# Altium schematic symbol library Schlib1.SchLib: 38 symbols
Pins are listed as number, name and electrical type; pins without a type are passive.

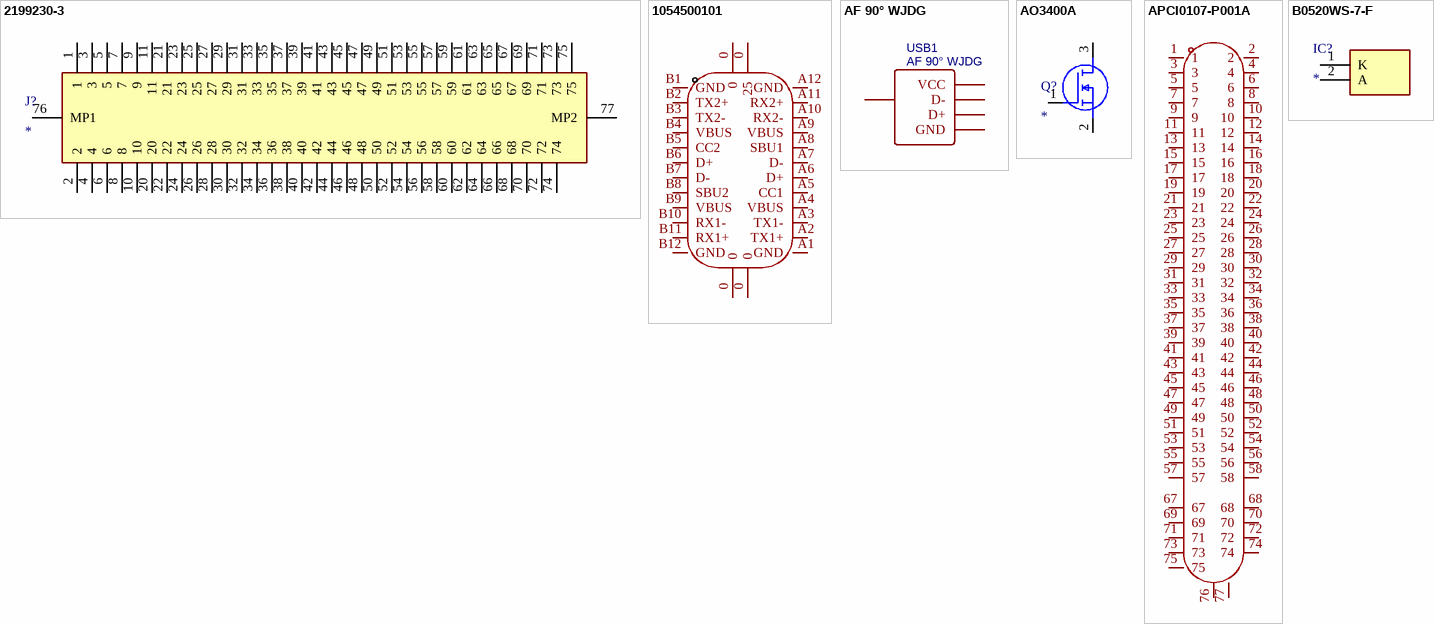
[diagram p0: symbols 2199230-3 to B0520WS-7-F]

## 2199230-3
designator J?
Connector; Manufacturer_Name: TE Connectivity; Manufacturer_Part_Number: 2199230-3; Datasheet Link: https://componentsearchengine.com/Datasheets/2/2199230-3.pdf; Mouser Part Number: 571-2199230-3; Mouser Price/Stock: https://www.mouser.co.uk/ProductDetail/TE-Connectivity/2199230-3?qs=EQCnRgr4b6HElQOKr5ma1Q%3D%3D; Arrow Part Number: 2199230-3; Arrow Price/Stock: https://www.arrow.com/en/products/2199230-3/te-connectivity?utm_currency=USD&region=nac
footprint 21992303
pins: 1, 2, 3, 4, 5, 6, 7, 8, 9, 10, 11, 20, 21, 22, 23, 24, 25, 26, 27, 28, 29, 30, 31, 32, 33, 34, 35, 36, 37, 38, 39, 40, 41, 42, 43, 44, 45, 46, 47, 48, 49, 50, 51, 52, 53, 54, 55, 56, 57, 58, 59, 60, 61, 62, 63, 64, 65, 66, 67, 68, 69, 70, 71, 72, 73, 74, 75, 76 MP1, 77 MP2

## 1054500101
designator USBC?  (value not drawn)
Manufacturer: MOLEX; Symbol: 105450-0101; Add into BOM: yes; Connector Type: Type-C; Protocol Standard: USB 3.2; Gender: Female; Number of Contacts: 24P; Number of Ports: 1; Voltage Rating: 30V; Connect-Disconnect Life: 10,000 Cycles; Detection color: Black; Device: 1054500101; LCSC Part Name: Type-C 母; Supplier Part: C134092; Manufacturer Part: 1054500101; Supplier Footprint: SMD; JLCPCB Part Class: Extended Part; Datasheet: https://www.molex.com/content/dam/molex/molex-dot-com/products/automated/en-us/salesdrawingpdf/105/105450/1054500101_sd.pdf?inline\; Supplier: LCSC; Convert to PCB: yes; Current Rating-Power: -; Operating Temperature: -30℃~+85℃
footprint USB-C-SMD_TYPE-C-USB-18
3D model USB-C-SMD_TYPE-C-USB-18
pins: 0, 0 25, 0, 0, A1 GND, A2 TX1+, A3 TX1-, A4 VBUS, A5 CC1, A6 D+, A7 D-, A8 SBU1, A9 VBUS, A10 RX2-, A11 RX2+, A12 GND, B1 GND, B2 TX2+, B3 TX2-, B4 VBUS, B5 CC2, B6 D+, B7 D-, B8 SBU2, B9 VBUS, B10 RX1-, B11 RX1+, B12 GND

## AF 90° WJDG
designator USB1
Manufacturer: SHOU HAN(首韩); Contributor: LCSC; Supplier: LCSC; Supplier Part: C456018; Manufacturer Part: AF 90° WJDG; JLCPCB Part Class: Extended Part; spicePre: U; spiceSymbolName: AF 90° WJDG
footprint USB-A-TH_AF-WJDG
pins: 1 VCC, 2 D-, 3 D+, 4 GND, 5 SHLD

## AO3400A
designator Q?
MOSFET (N-Channel); Manufacturer_Name: Alpha & Omega Semiconductors; Manufacturer_Part_Number: AO3400A; Datasheet Link: http://aosmd.com/res/data_sheets/AO3400A.pdf; Height: 1.25mm; Arrow Part Number: AO3400A; Arrow Price/Stock: https://www.arrow.com/en/products/ao3400a/alpha-and-omega-semiconductor?utm_currency=USD&region=nac
footprint SOT95P280X125-3N
pins: 1 G, 2 S, 3 D

## APCI0107-P001A
designator CN?  (value not drawn)
Manufacturer: LOTES(嘉澤端子); Add into BOM: yes; Interface Form: M.2-M Key; Connector Type: Female; Supplementary Features: With post; Symbol: APCI0107-P001A; Device: APCI0107-P001A; LCSC Part Name: APCI0107-P001A; Supplier Part: C841661; Manufacturer Part: APCI0107-P001A; Supplier Footprint: SMD,P=0.5mm,卧贴; JLCPCB Part Class: Extended Part; Datasheet: https://item.szlcsc.com/datasheet/APCI0107-P001A/899447.html; Supplier: LCSC; Convert to PCB: yes; Number of Pins: 67P; Mounting Type: Surface Mount, Right Angle; Height Above Board: 4.05mm; Operating Temperature: -
footprint CONN-SMD_APCI0107-P001A
3D model CONN-SMD_APCI0107-P001A
pins: 1, 2, 3, 4, 5, 6, 7, 8, 9, 10, 11, 12, 13, 14, 15, 16, 17, 18, 19, 20, 21, 22, 23, 24, 25, 26, 27, 28, 29, 30, 31, 32, 33, 34, 35, 36, 37, 38, 39, 40, 41, 42, 43, 44, 45, 46, 47, 48, 49, 50, 51, 52, 53, 54, 55, 56, 57, 58, 67, 68, 69, 70, 71, 72, 73, 74, 75, 76, 77

## B0520WS-7-F
designator IC?
Integrated Circuit; Manufacturer_Name: Lattice Semiconductor; Manufacturer_Part_Number: B0520WS-7-F; Datasheet Link: https://www.diodes.com/assets/Datasheets/ds30235.pdf; Height: 1.2mm; Mouser Part Number: N/A; Mouser Price/Stock: https://www.mouser.com/Search/Refine.aspx?Keyword=N%2FA
footprint SOD2513X120N
pins: 1 K, 2 A

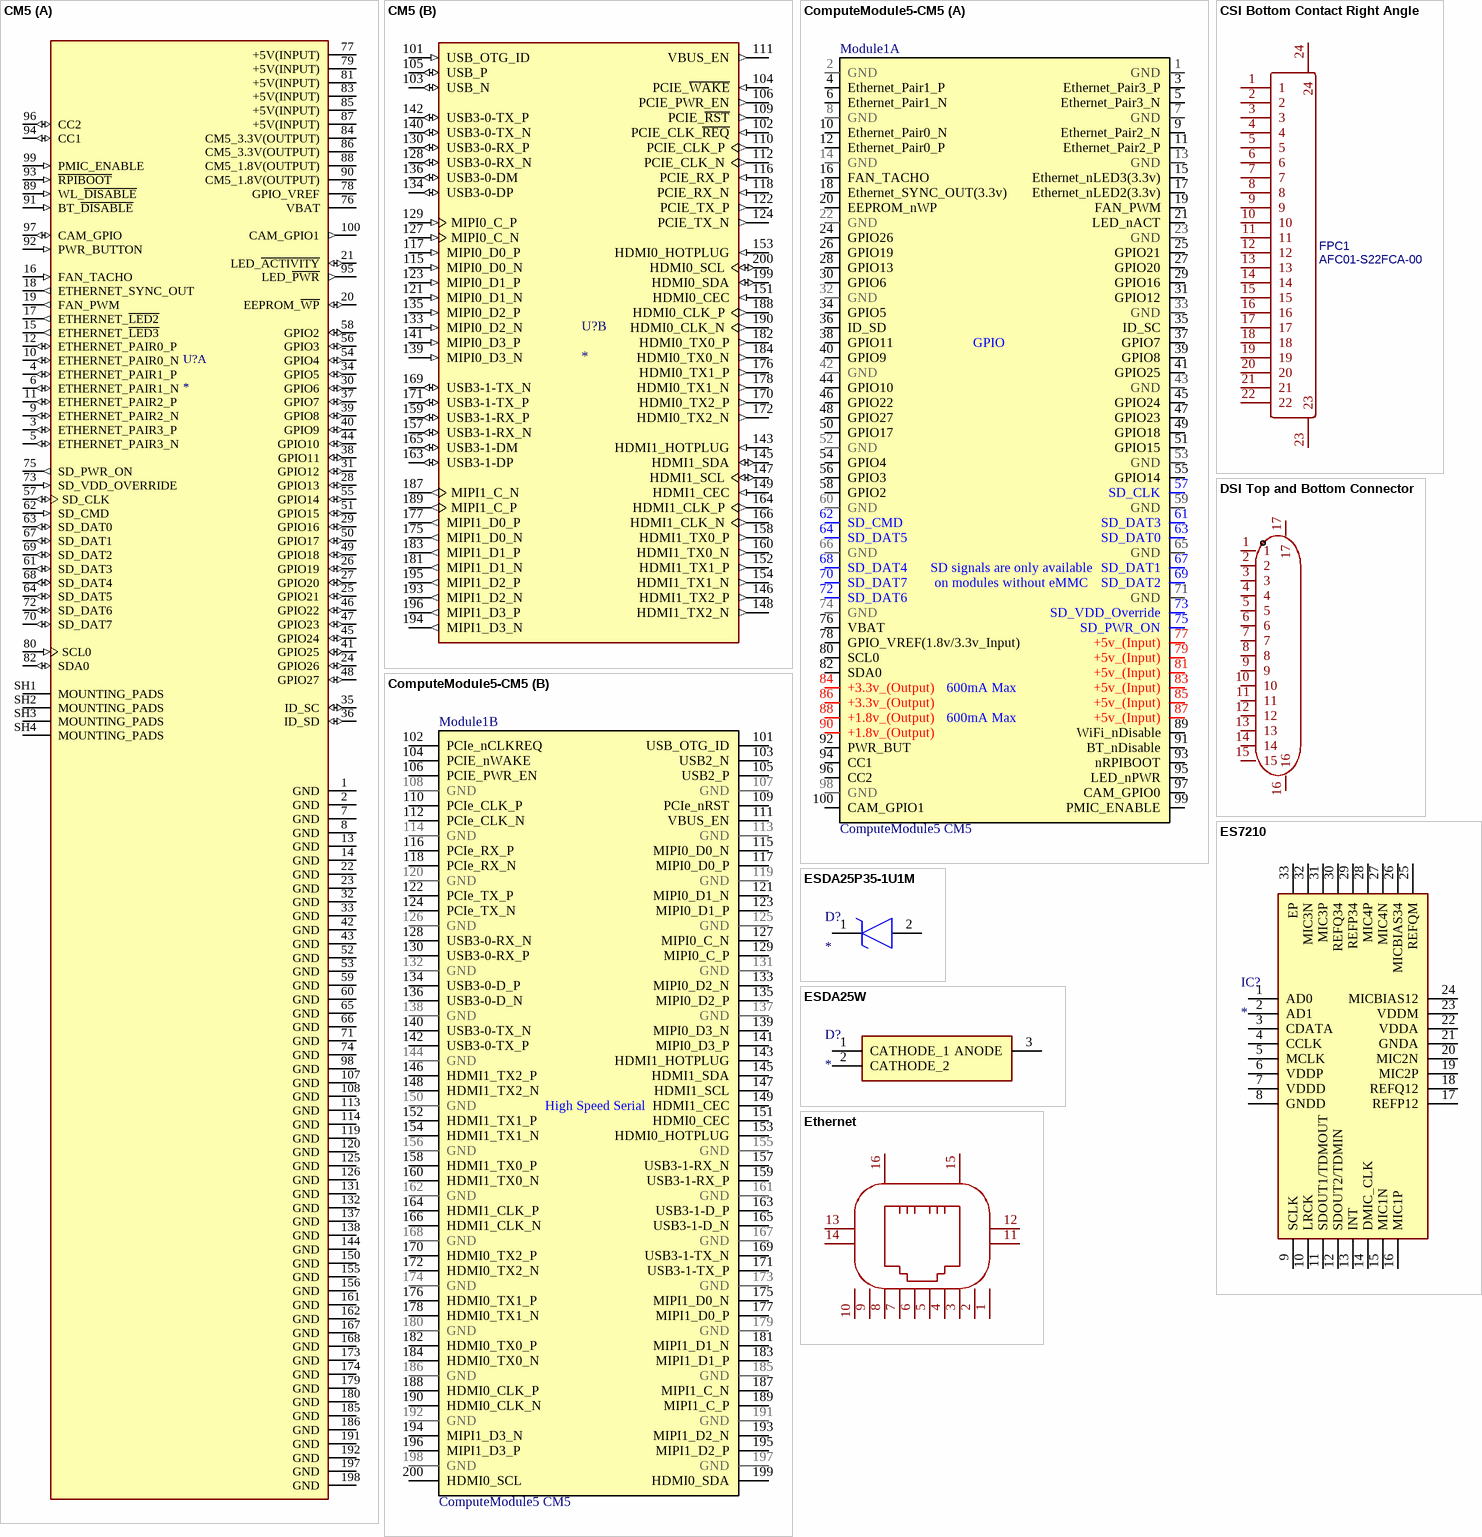
[diagram p1: symbols CM5 to Ethernet]

## CM5
designator U?
Raspberry Compute Module 5, 8GB RAM, 32GB eMMC, Wireless; MF: Raspberry Pi; MP: CM5108032; SnapEDA_Link: https://www.snapeda.com/parts/CM5108032/Raspberry+Pi/view-part/?ref=snap; Package: None; Value: *; Check_prices: https://www.snapeda.com/parts/CM5108032/Raspberry+Pi/view-part/?ref=eda
footprint MODULE_CM5108032
part A pins: 1 GND (power), 2 GND (power), 3 ETHERNET_PAIR3_P (io), 4 ETHERNET_PAIR1_P (io), 5 ETHERNET_PAIR3_N (io), 6 ETHERNET_PAIR1_N (io), 7 GND (power), 8 GND (power), 9 ETHERNET_PAIR2_N (io), 10 ETHERNET_PAIR0_N (io), 11 ETHERNET_PAIR2_P (io), 12 ETHERNET_PAIR0_P (io), 13 GND (power), 14 GND (power), 15 ETHERNET_~{LED3} (out), 16 FAN_TACHO (in), 17 ETHERNET_~{LED2} (out), 18 ETHERNET_SYNC_OUT (out), 19 FAN_PWM (out), 20 EEPROM_~{WP} (io), 21 LED_~{ACTIVITY} (io), 22 GND (power), 23 GND (power), 24 GPIO26 (io), 25 GPIO21 (io), 26 GPIO19 (io), 27 GPIO20 (io), 28 GPIO13 (io), 29 GPIO16 (io), 30 GPIO6 (io), 31 GPIO12 (io), 32 GND (power), 33 GND (power), 34 GPIO5 (io), 35 ID_SC (io), 36 ID_SD (io), 37 GPIO7 (io), 38 GPIO11 (io), 39 GPIO8 (io), 40 GPIO9 (io), 41 GPIO25 (io), 42 GND (power), 43 GND (power), 44 GPIO10 (io), 45 GPIO24 (io), 46 GPIO22 (io), 47 GPIO23 (io), 48 GPIO27 (io), 49 GPIO18 (io), 50 GPIO17 (io), 51 GPIO15 (io), 52 GND (power), 53 GND (power), 54 GPIO4 (io), 55 GPIO14 (io), 56 GPIO3 (io), 57 SD_CLK (io), 58 GPIO2 (io), 59 GND (power), 60 GND (power), 61 SD_DAT3 (io), 62 SD_CMD (in), 63 SD_DAT0 (io), 64 SD_DAT5 (io), 65 GND (power), 66 GND (power), 67 SD_DAT1 (io), 68 SD_DAT4 (io), 69 SD_DAT2 (io), 70 SD_DAT7 (io), 71 GND (power), 72 SD_DAT6 (io), 73 SD_VDD_OVERRIDE (in), 74 GND (power), 75 SD_PWR_ON (out), 76 VBAT (power), 77 +5V(INPUT) (power), 78 GPIO_VREF (power), 79 +5V(INPUT) (power), 80 SCL0 (in), 81 +5V(INPUT) (power), 82 SDA0 (io), 83 +5V(INPUT) (power), 84 CM5_3.3V(OUTPUT) (power), 85 +5V(INPUT) (power), 86 CM5_3.3V(OUTPUT) (power), 87 +5V(INPUT) (power), 88 CM5_1.8V(OUTPUT) (power), 89 WL_~{DISABLE} (in), 90 CM5_1.8V(OUTPUT) (power), 91 BT_~{DISABLE} (in), 92 PWR_BUTTON (in), 93 ~{RPIBOOT} (in), 94 CC1 (io), 95 LED_~{PWR} (out), 96 CC2 (io), 97 CAM_GPIO (io), 98 GND (power), 99 PMIC_ENABLE (in), 100 CAM_GPIO1 (out), 107 GND (power), 108 GND (power), 113 GND (power), 114 GND (power), 119 GND (power), 120 GND (power), 125 GND (power), 126 GND (power), 131 GND (power), 132 GND (power), 137 GND (power), 138 GND (power), 144 GND (power), 150 GND (power), 155 GND (power), 156 GND (power), 161 GND (power), 162 GND (power), 167 GND (power), 168 GND (power), 173 GND (power), 174 GND (power), 179 GND (power), 180 GND (power), 185 GND (power), 186 GND (power), 191 GND (power), 192 GND (power), 197 GND (power), 198 GND (power), SH1 MOUNTING_PADS, SH2 MOUNTING_PADS, SH3 MOUNTING_PADS, SH4 MOUNTING_PADS
part B pins: 101 USB_OTG_ID (in), 102 PCIE_CLK_~{REQ} (in), 103 USB_N (io), 104 PCIE_~{WAKE} (in), 105 USB_P (io), 106 PCIE_PWR_EN (out), 109 PCIE_~{RST} (out), 110 PCIE_CLK_P (out), 111 VBUS_EN (out), 112 PCIE_CLK_N (out), 115 MIPI0_D0_N (in), 116 PCIE_RX_P (in), 117 MIPI0_D0_P (in), 118 PCIE_RX_N (in), 121 MIPI0_D1_N (in), 122 PCIE_TX_P (out), 123 MIPI0_D1_P (in), 124 PCIE_TX_N (out), 127 MIPI0_C_N (in), 128 USB3-0-RX_N (io), 129 MIPI0_C_P (in), 130 USB3-0-RX_P (io), 133 MIPI0_D2_N (in), 134 USB3-0-DP (io), 135 MIPI0_D2_P (in), 136 USB3-0-DM (io), 139 MIPI0_D3_N (in), 140 USB3-0-TX_N (io), 141 MIPI0_D3_P (in), 142 USB3-0-TX_P (io), 143 HDMI1_HOTPLUG (in), 145 HDMI1_SDA (io), 146 HDMI1_TX2_P (out), 147 HDMI1_SCL (io), 148 HDMI1_TX2_N (out), 149 HDMI1_CEC (in), 151 HDMI0_CEC (in), 152 HDMI1_TX1_P (out), 153 HDMI0_HOTPLUG (in), 154 HDMI1_TX1_N (out), 157 USB3-1-RX_N (io), 158 HDMI1_TX0_P (out), 159 USB3-1-RX_P (io), 160 HDMI1_TX0_N (out), 163 USB3-1-DP (io), 164 HDMI1_CLK_P (out), 165 USB3-1-DM (io), 166 HDMI1_CLK_N (out), 169 USB3-1-TX_N (io), 170 HDMI0_TX2_P (out), 171 USB3-1-TX_P (io), 172 HDMI0_TX2_N (out), 175 MIPI1_D0_N (out), 176 HDMI0_TX1_P (out), 177 MIPI1_D0_P (out), 178 HDMI0_TX1_N (out), 181 MIPI1_D1_N (out), 182 HDMI0_TX0_P (out), 183 MIPI1_D1_P (out), 184 HDMI0_TX0_N (out), 187 MIPI1_C_N (out), 188 HDMI0_CLK_P (out), 189 MIPI1_C_P (out), 190 HDMI0_CLK_N (out), 193 MIPI1_D2_N (out), 194 MIPI1_D3_N (out), 195 MIPI1_D2_P (out), 196 MIPI1_D3_P (out), 199 HDMI0_SDA (io), 200 HDMI0_SCL (io)

## ComputeModule5-CM5
designator Module1, comment ComputeModule5 CM5  (no BOM)
Raspberry Pi Compute Module 5
footprint ComputeModule5-CM5
part A pins: 1 GND, 2 GND, 3 Ethernet_Pair3_P, 4 Ethernet_Pair1_P, 5 Ethernet_Pair3_N, 6 Ethernet_Pair1_N, 7 GND, 8 GND, 9 Ethernet_Pair2_N, 10 Ethernet_Pair0_N, 11 Ethernet_Pair2_P, 12 Ethernet_Pair0_P, 13 GND, 14 GND, 15 Ethernet_nLED3(3.3v), 16 FAN_TACHO, 17 Ethernet_nLED2(3.3v), 18 Ethernet_SYNC_OUT(3.3v), 19 FAN_PWM, 20 EEPROM_nWP, 21 LED_nACT, 22 GND, 23 GND, 24 GPIO26, 25 GPIO21, 26 GPIO19, 27 GPIO20, 28 GPIO13, 29 GPIO16, 30 GPIO6, 31 GPIO12, 32 GND, 33 GND, 34 GPIO5, 35 ID_SC, 36 ID_SD, 37 GPIO7, 38 GPIO11, 39 GPIO8, 40 GPIO9, 41 GPIO25, 42 GND, 43 GND, 44 GPIO10, 45 GPIO24, 46 GPIO22, 47 GPIO23, 48 GPIO27, 49 GPIO18, 50 GPIO17, 51 GPIO15, 52 GND, 53 GND, 54 GPIO4, 55 GPIO14, 56 GPIO3, 57 SD_CLK, 58 GPIO2, 59 GND, 60 GND, 61 SD_DAT3, 62 SD_CMD, 63 SD_DAT0, 64 SD_DAT5, 65 GND, 66 GND, 67 SD_DAT1, 68 SD_DAT4, 69 SD_DAT2, 70 SD_DAT7, 71 GND, 72 SD_DAT6, 73 SD_VDD_Override, 74 GND, 75 SD_PWR_ON, 76 VBAT, 77 +5v_(Input), 78 GPIO_VREF(1.8v/3.3v_Input), 79 +5v_(Input), 80 SCL0, 81 +5v_(Input), 82 SDA0, 83 +5v_(Input), 84 +3.3v_(Output), 85 +5v_(Input), 86 +3.3v_(Output), 87 +5v_(Input), 88 +1.8v_(Output), 89 WiFi_nDisable, 90 +1.8v_(Output), 91 BT_nDisable, 92 PWR_BUT, 93 nRPIBOOT, 94 CC1, 95 LED_nPWR, 96 CC2, 97 CAM_GPIO0, 98 GND, 99 PMIC_ENABLE, 100 CAM_GPIO1
part B pins: 101 USB_OTG_ID, 102 PCIe_nCLKREQ, 103 USB2_N, 104 PCIE_nWAKE, 105 USB2_P, 106 PCIE_PWR_EN, 107 GND, 108 GND, 109 PCIe_nRST, 110 PCIe_CLK_P, 111 VBUS_EN, 112 PCIe_CLK_N, 113 GND, 114 GND, 115 MIPI0_D0_N, 116 PCIe_RX_P, 117 MIPI0_D0_P, 118 PCIe_RX_N, 119 GND, 120 GND, 121 MIPI0_D1_N, 122 PCIe_TX_P, 123 MIPI0_D1_P, 124 PCIe_TX_N, 125 GND, 126 GND, 127 MIPI0_C_N, 128 USB3-0-RX_N, 129 MIPI0_C_P, 130 USB3-0-RX_P, 131 GND, 132 GND, 133 MIPI0_D2_N, 134 USB3-0-D_P, 135 MIPI0_D2_P, 136 USB3-0-D_N, 137 GND, 138 GND, 139 MIPI0_D3_N, 140 USB3-0-TX_N, 141 MIPI0_D3_P, 142 USB3-0-TX_P, 143 HDMI1_HOTPLUG, 144 GND, 145 HDMI1_SDA, 146 HDMI1_TX2_P, 147 HDMI1_SCL, 148 HDMI1_TX2_N, 149 HDMI1_CEC, 150 GND, 151 HDMI0_CEC, 152 HDMI1_TX1_P, 153 HDMI0_HOTPLUG, 154 HDMI1_TX1_N, 155 GND, 156 GND, 157 USB3-1-RX_N, 158 HDMI1_TX0_P, 159 USB3-1-RX_P, 160 HDMI1_TX0_N, 161 GND, 162 GND, 163 USB3-1-D_P, 164 HDMI1_CLK_P, 165 USB3-1-D_N, 166 HDMI1_CLK_N, 167 GND, 168 GND, 169 USB3-1-TX_N, 170 HDMI0_TX2_P, 171 USB3-1-TX_P, 172 HDMI0_TX2_N, 173 GND, 174 GND, 175 MIPI1_D0_N, 176 HDMI0_TX1_P, 177 MIPI1_D0_P, 178 HDMI0_TX1_N, 179 GND, 180 GND, 181 MIPI1_D1_N, 182 HDMI0_TX0_P, 183 MIPI1_D1_P, 184 HDMI0_TX0_N, 185 GND, 186 GND, 187 MIPI1_C_N, 188 HDMI0_CLK_P, 189 MIPI1_C_P, 190 HDMI0_CLK_N, 191 GND, 192 GND, 193 MIPI1_D2_N, 194 MIPI1_D3_N, 195 MIPI1_D2_P, 196 MIPI1_D3_P, 197 GND, 198 GND, 199 HDMI0_SDA, 200 HDMI0_SCL
part A text: GPIO; SD signals are only available; on modules without eMMC; 600mA Max
part B text: High Speed Serial

## CSI Bottom Contact Right Angle
designator FPC1, comment AFC01-S22FCA-00
Manufacturer: JS(钜硕电子); Contributor: LCSC; Supplier: LCSC; Supplier Part: C262668; Manufacturer Part: AFC01-S22FCA-00; JLCPCB Part Class: Extended Part; spicePre: F; spiceSymbolName: AFC01-S22FCA-00
footprint FPC-SMD_P0.5-22P_FGS-XJ-H2.0
pins: 1, 2, 3, 4, 5, 6, 7, 8, 9, 10, 11, 12, 13, 14, 15, 16, 17, 18, 19, 20, 21, 22, 23, 24

## DSI Top and Bottom Connector
designator FPC?, comment HC-FPC-1.0-15P-FHH20  (value not drawn)
Manufacturer: HC(虹成电子); Add into BOM: yes; Locking Feature: Hinged Lid; Number of Contacts: 15P; Pitch: 1mm; FFC, FCB Thickness: 0.3mm; Symbol: HC-FPC-1.0-15P-FHH20; Device: HC-FPC-1.0-15P-FHH20; LCSC Part Name: 翻盖式 双侧触点/上下接 P数:15P 间距:1mm; Supplier Part: C49166884; Manufacturer Part: HC-FPC-1.0-15P-FHH20; Supplier Footprint: SMD,P=1mm,卧贴; JLCPCB Part Class: Extended Part; Datasheet: https://item.szlcsc.com/datasheet/HC-FPC-1.0-15P-FHH20/51557854.html; Supplier: LCSC; Convert to PCB: yes; Contact Type: Double-Sided Contacts, Top and Bottom Entry; Mounting Type: Surface Mount, Right Angle; Height Above Board: 2mm; Contact Material: -; Contact Plating: -; Operating Temperature: -40℃~+85℃
footprint FPC-SMD_15P-P0.50_HC-FPC-1.0-15P-FHH20
pins: 1, 2, 3, 4, 5, 6, 7, 8, 9, 10, 11, 12, 13, 14, 15, 16, 17

## ES7210
designator IC?
Integrated Circuit; Manufacturer_Name: Everest; Manufacturer_Part_Number: ES7210; Description: High Performance Four Channels Audio ADC; Datasheet Link: http://www.everest-semi.com/pdf/ES7210%20PB.pdf; Height: 0.8mm
footprint QFN40P400X400X80-33N-D
pins: 1 AD0, 2 AD1, 3 CDATA, 4 CCLK, 5 MCLK, 6 VDDP, 7 VDDD, 8 GNDD, 9 SCLK, 10 LRCK, 11 SDOUT1/TDMOUT, 12 SDOUT2/TDMIN, 13 INT, 14 DMIC_CLK, 15 MIC1N, 16 MIC1P, 17 REFP12, 18 REFQ12, 19 MIC2P, 20 MIC2N, 21 GNDA, 22 VDDA, 23 VDDM, 24 MICBIAS12, 25 REFQM, 26 MICBIAS34, 27 MIC4N, 28 MIC4P, 29 REFP34, 30 REFQ34, 31 MIC3P, 32 MIC3N, 33 EP

## ESDA25P35-1U1M
designator D?
TVS Diode (Uni-directional); Manufacturer_Name: STMicroelectronics; Manufacturer_Part_Number: ESDA25P35-1U1M; Datasheet Link: https://www.st.com/resource/en/datasheet/esda20p50-1u1m.pdf; Height: 0.6mm; Mouser Part Number: 511-ESDA25P35-1U1M; Mouser Price/Stock: https://www.mouser.co.uk/ProductDetail/STMicroelectronics/ESDA25P35-1U1M?qs=aVyJF2WnouQUWqgNP85ZrA%3D%3D; Arrow Part Number: ESDA25P35-1U1M; Arrow Price/Stock: https://www.arrow.com/en/products/esda25p35-1u1m/stmicroelectronics.html?utm_currency=USD&region=nac
footprint ESDA25P351U1M
pins: 1 K, 2 A

## ESDA25W
designator D?
Diode; Manufacturer_Name: STMicroelectronics; Manufacturer_Part_Number: ESDA25W; Datasheet Link: https://www.st.com/resource/en/datasheet/esdaxxxwx.pdf; Height: 1.1mm; Mouser Part Number: 511-ESDA25W; Mouser Price/Stock: https://www.mouser.co.uk/ProductDetail/STMicroelectronics/ESDA25W?qs=f9uBznyCLhbO4Du0O%2FZtlA%3D%3D; Arrow Part Number: ESDA25W; Arrow Price/Stock: https://www.arrow.com/en/products/esda25w/stmicroelectronics?utm_currency=USD&region=nac
footprint SOT65P210X110-3N
pins: 1 CATHODE_1, 2 CATHODE_2, 3 ANODE

## Ethernet
designator RJ?  (value not drawn)
Manufacturer: HANRUN(汉仁); Symbol: HR851178A; Add into BOM: yes; Connector Type: RJ45 Jack; Number of Ports: 1; LED: With LED; Shielding: Shielded; Supplementary Features: With Cross Pin; Device: HR851178A; LCSC Part Name: 弯插 带LED; Supplier Part: C2931908; Manufacturer Part: HR851178A; Supplier Footprint: 插件; JLCPCB Part Class: Extended Part; Datasheet: https://item.szlcsc.com/datasheet/HR851178A/3273730.html; Supplier: LCSC; Convert to PCB: yes; Mounting Type: Right Angle; Contact Material: Phosphor Bronze; Contact Plating: Gold; Operating Temperature: 0℃~+70℃
footprint RJ45-TH_HR851178A
pins: 1, 2, 3, 4, 5, 6, 7, 8, 9, 10, 11 LED, 12 LED, 13 LED, 14 LED, 15 SHELL, 16 SHELL

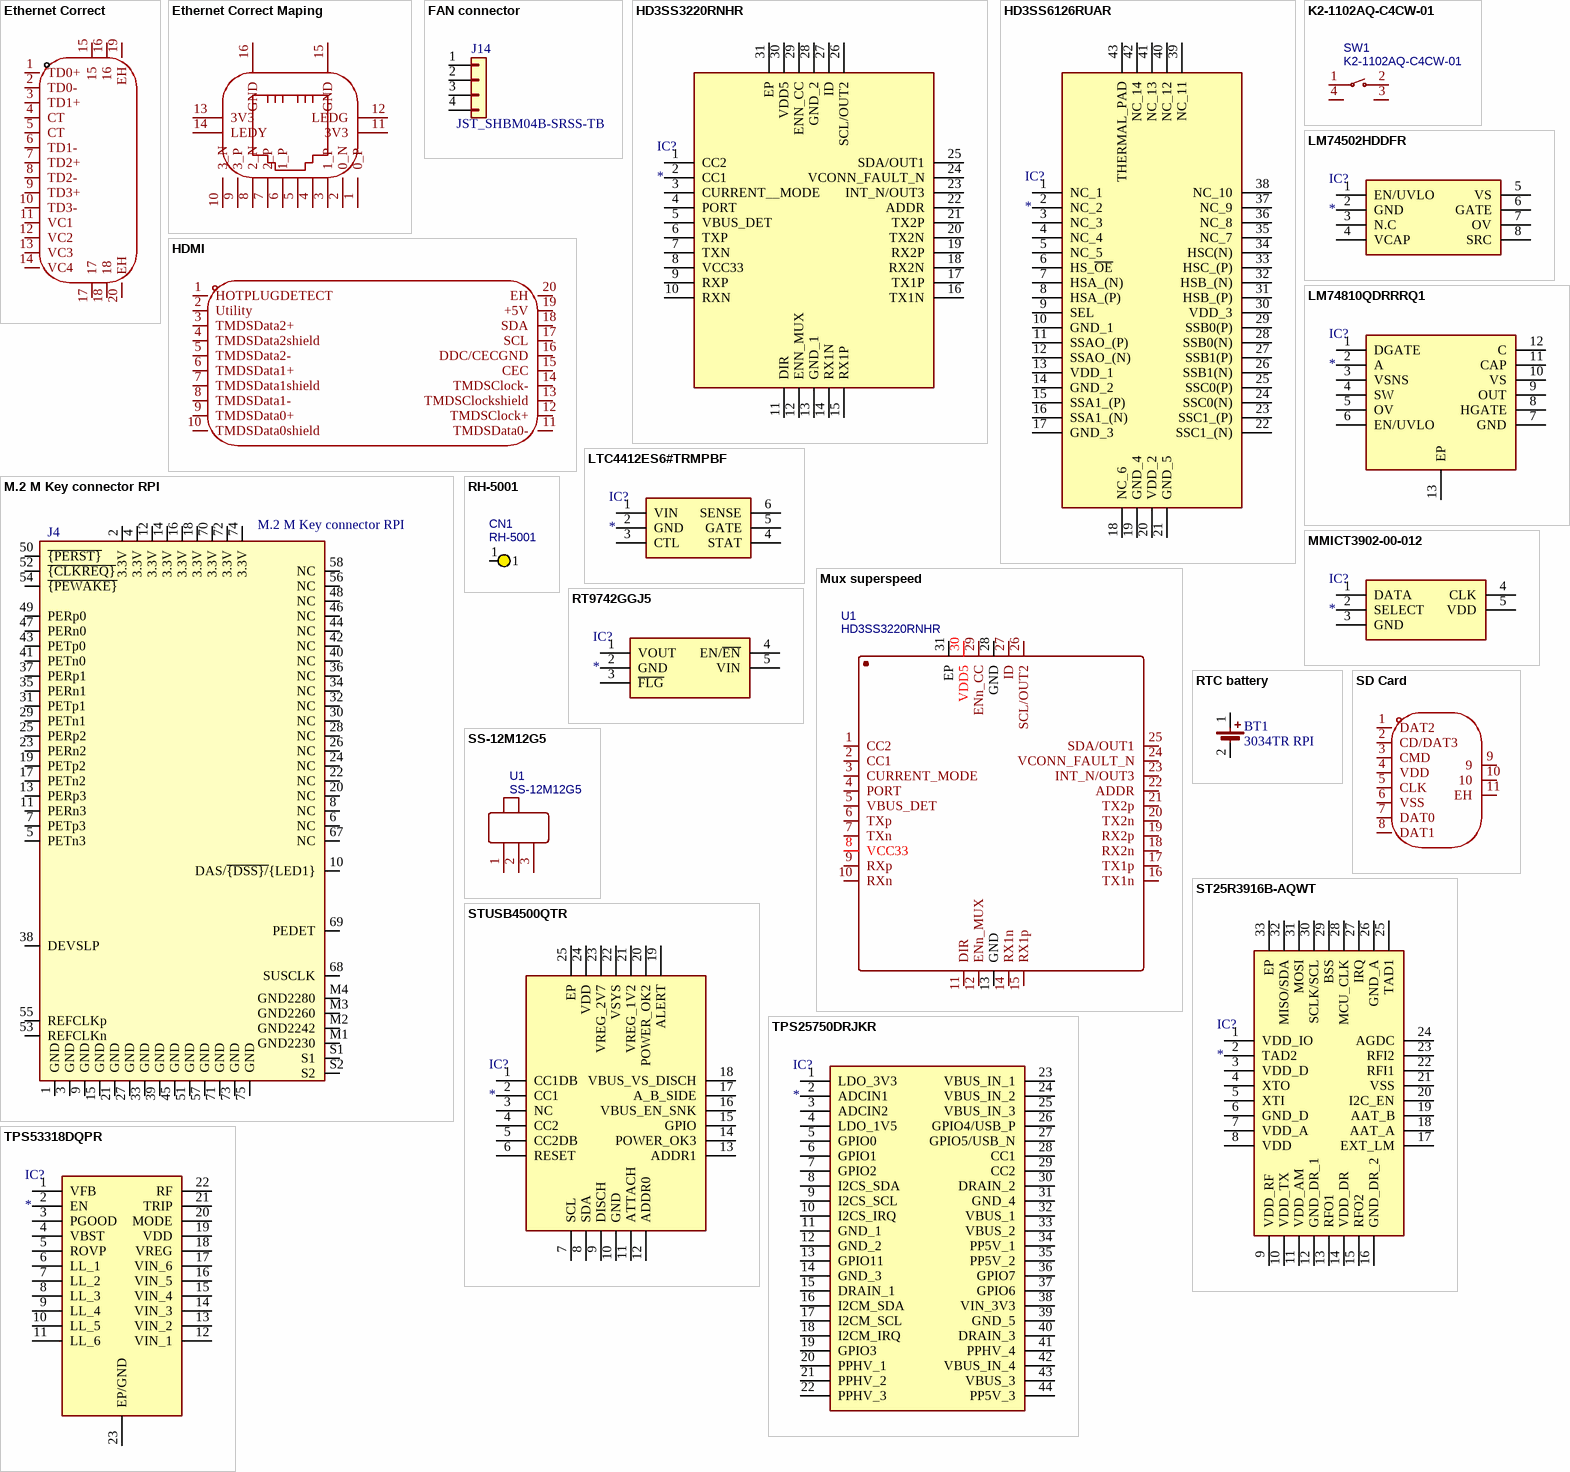
[diagram p2: symbols Ethernet Correct to TPS53318DQPR]

## Ethernet Correct
designator RJ?, comment LPJG0926HENL  (value not drawn)
C22457393; Manufacturer: LINK-PP(连普科技); Symbol: LPJG0926HENL_C22457393; Add into BOM: yes; Connector Type: RJ45 Jack; Number of Ports: 1; LED: With LED; Shielding: Shielded; PoE: Non-PoE; Device: LPJG0926HENL_C22457393; LCSC Part Name: 弯插 带LED; Supplier Part: C22457393; Manufacturer Part: LPJG0926HENL; Supplier Footprint: 插件; JLCPCB Part Class: Extended Part; Datasheet: https://item.szlcsc.com/datasheet/LPJG0926HENL/24125913.html; Supplier: LCSC; Convert to PCB: yes; Mounting Type: Right Angle; Contact Material: Phosphor Bronze; Contact Plating: Gold; Operating Temperature: 0℃~+70℃
footprint RJ45-TH_LPJG0926HENL_C22457393
pins: 1 TD0+, 2 TD0-, 3 TD1+, 4 CT, 5 CT, 6 TD1-, 7 TD2+, 8 TD2-, 9 TD3+, 10 TD3-, 11 VC1, 12 VC2, 13 VC3, 14 VC4, 15, 16, 17, 18, 19 EH, 20 EH

## Ethernet Correct Maping
designator RJ?, comment Ethernet  (value not drawn)
Manufacturer: HANRUN(汉仁); Symbol: HR851178A; Add into BOM: yes; Connector Type: RJ45 Jack; Number of Ports: 1; LED: With LED; Shielding: Shielded; Supplementary Features: With Cross Pin; Device: HR851178A; LCSC Part Name: 弯插 带LED; Supplier Part: C2931908; Manufacturer Part: HR851178A; Supplier Footprint: 插件; JLCPCB Part Class: Extended Part; Datasheet: https://item.szlcsc.com/datasheet/HR851178A/3273730.html; Supplier: LCSC; Convert to PCB: yes; Mounting Type: Right Angle; Contact Material: Phosphor Bronze; Contact Plating: Gold; Operating Temperature: 0℃~+70℃
footprint RJ45-TH_HR851178A
pins: 1 0_P, 2 0_N, 3 1_P, 4, 5, 6 1_P, 7 2_P, 8 2_N, 9 3_P, 10 3_N, 11 3V3, 12 LEDG, 13 3V3, 14 LEDY, 15 GND, 16 GND

## FAN connector
designator J14, comment JST_SHBM04B-SRSS-TB
Board Connector, 4 Contact(s), 1 Row(s), Male, Straight, Surface Mount Terminal; Pitch: 0.039inch; Number of Contacts: 4; Series: SR; Lead Free: Contains Lead; Housing Material: Nylon; Contact Plating: Tin,Lead; Number of Positions: 4; Contact Type: Male Pin; Contact Material: Copper Alloy; Mounting Technology: Surface Mount; Number of Rows: 1; Package Quantity: 1500; Termination: Solder; Orientation: Vertical; Housing Color: Natural; Color: Natural; Packaging: Cut Tape
footprint JST_SHBM04B-SRSS-TB
pins: 1 Pin_1, 2 Pin_2, 3 Pin_3, 4 Pin_4

## HD3SS3220RNHR
designator IC?
Integrated Circuit; Manufacturer_Name: Texas Instruments; Manufacturer_Part_Number: HD3SS3220RNHR; Datasheet Link: http://www.ti.com/lit/gpn/hd3ss3220; Height: 0.8mm; Mouser Part Number: 595-HD3SS3220RNHR; Mouser Price/Stock: https://www.mouser.co.uk/ProductDetail/Texas-Instruments/HD3SS3220RNHR?qs=8%2FmU9qzJpL%2FZiGYImqpYFA%3D%3D; Arrow Part Number: HD3SS3220RNHR; Arrow Price/Stock: https://www.arrow.com/en/products/hd3ss3220rnhr/texas-instruments?utm_currency=USD&region=nac
footprint QFN40P250X450X80-31N-D
pins: 1 CC2, 2 CC1, 3 CURRENT__MODE, 4 PORT, 5 VBUS_DET, 6 TXP, 7 TXN, 8 VCC33, 9 RXP, 10 RXN, 11 DIR, 12 ENN_MUX, 13 GND_1, 14 RX1N, 15 RX1P, 16 TX1N, 17 TX1P, 18 RX2N, 19 RX2P, 20 TX2N, 21 TX2P, 22 ADDR, 23 INT_N/OUT3, 24 VCONN_FAULT_N, 25 SDA/OUT1, 26 SCL/OUT2, 27 ID, 28 GND_2, 29 ENN_CC, 30 VDD5, 31 EP

## HD3SS6126RUAR
designator IC?
Integrated Circuit; Manufacturer_Name: Texas Instruments; Manufacturer_Part_Number: HD3SS6126RUAR; Datasheet Link: http://www.ti.com/lit/gpn/hd3ss6126; Height: 0.8mm; Mouser Part Number: 595-HD3SS6126RUAR; Mouser Price/Stock: https://www.mouser.co.uk/ProductDetail/Texas-Instruments/HD3SS6126RUAR?qs=3oHdzXquMOxuOQpaguz6Og%3D%3D; Arrow Part Number: HD3SS6126RUAR; Arrow Price/Stock: https://www.arrow.com/en/products/hd3ss6126ruar/texas-instruments?region=nac
footprint QFN50P350X900X80-43N-D
pins: 1 NC_1, 2 NC_2, 3 NC_3, 4 NC_4, 5 NC_5, 6 HS_~{OE}, 7 HSA_(N), 8 HSA_(P), 9 SEL, 10 GND_1, 11 SSAO_(P), 12 SSAO_(N), 13 VDD_1, 14 GND_2, 15 SSA1_(P), 16 SSA1_(N), 17 GND_3, 18 NC_6, 19 GND_4, 20 VDD_2, 21 GND_5, 22 SSC1_(N), 23 SSC1_(P), 24 SSC0(N), 25 SSC0(P), 26 SSB1(N), 27 SSB1(P), 28 SSB0(N), 29 SSB0(P), 30 VDD_3, 31 HSB_(P), 32 HSB_(N), 33 HSC_(P), 34 HSC(N), 35 NC_7, 36 NC_8, 37 NC_9, 38 NC_10, 39 NC_11, 40 NC_12, 41 NC_13, 42 NC_14, 43 THERMAL_PAD

## HDMI
designator CN?, comment HYC23-HDMID19-650  (value not drawn)
Manufacturer: 华宇创; Add into BOM: yes; Connector Type: HDMI-D; Gender: Female; Current Rating: 300mA; Symbol: HYC23-HDMID19-650; Device: HYC23-HDMID19-650; LCSC Part Name: HDMI-D 母 19P; Supplier Part: C711358; Manufacturer Part: HYC23-HDMID19-650; Supplier Footprint: SMD; JLCPCB Part Class: Extended Part; Datasheet: https://item.szlcsc.com/datasheet/HYC23-HDMID19-650/750253.html; Supplier: LCSC; Convert to PCB: yes; Number of Pins: 19P; Mounting Type: Surface Mount, Right Angle; Voltage Rating: -; Operating Temperature: -40℃~+85℃
footprint AUDIO-TH_HYC23-HDMID19-650
3D model AUDIO-TH_HYC23-HDMID19-650
pins: 1 HOTPLUGDETECT, 2 Utility, 3 TMDSData2+, 4 TMDSData2shield, 5 TMDSData2-, 6 TMDSData1+, 7 TMDSData1shield, 8 TMDSData1-, 9 TMDSData0+, 10 TMDSData0shield, 11 TMDSData0-, 12 TMDSClock+, 13 TMDSClockshield, 14 TMDSClock-, 15 CEC, 16 DDC/CECGND, 17 SCL, 18 SDA, 19 +5V, 20 EH

## K2-1102AQ-C4CW-01
designator SW1
Manufacturer: 韩国韩荣; Contributor: LCSC; Supplier: LCSC; Manufacturer Part: K2-1102AQ-C4CW-01; Supplier Part: C127680; JLCPCB Part Class: Extended Part; spicePre: S; spiceSymbolName: K2-1102AQ-C4CW-01
footprint SW-TH_K2-1102AQ-C4CW-01
pins: 1, 2, 3, 4

## LM74502HDDFR
designator IC?
Integrated Circuit; Manufacturer_Name: Texas Instruments; Manufacturer_Part_Number: LM74502HDDFR; Datasheet Link: https://www.ti.com/lit/ds/symlink/lm74502h.pdf?HQS=dis-mous-null-mousermode-dsf-pf-null-wwe&ts=1659509238199&ref_url=https%253A%252F%252Fwww.mouser.vn%252F; Height: 1.1mm; Mouser Part Number: 595-LM74502HDDFR; Mouser Price/Stock: https://www.mouser.co.uk/ProductDetail/Texas-Instruments/LM74502HDDFR?qs=t7xnP681wgWDbfat8Yg%252B%2Fg%3D%3D; Arrow Part Number: LM74502HDDFR; Arrow Price/Stock: https://www.arrow.com/en/products/lm74502hddfr/texas-instruments.html?utm_currency=USD&region=nac
footprint SOT65P280X110-8N
pins: 1 EN/UVLO, 2 GND, 3 N.C, 4 VCAP, 5 VS, 6 GATE, 7 OV, 8 SRC

## LM74810QDRRRQ1
designator IC?
Integrated Circuit; Manufacturer_Name: Texas Instruments; Manufacturer_Part_Number: LM74810QDRRRQ1; Datasheet Link: https://www.ti.com/lit/ds/symlink/lm7481-q1.pdf?ts=1623392902286&ref_url=https%253A%252F%252Fwww.ti.com%252Fproduct%252FLM7481-Q1%253FkeyMatch%253DLM74810QDRRRQ1%2526tisearch%253Dsearch-everything%2526usecase%253DOPN; Height: 0.8mm; Mouser Part Number: 595-LM74810QDRRRQ1; Mouser Price/Stock: https://www.mouser.co.uk/ProductDetail/Texas-Instruments/LM74810QDRRRQ1?qs=KUoIvG%2F9IlZgYO4cz5Fhzw%3D%3D; Arrow Part Number: LM74810QDRRRQ1; Arrow Price/Stock: null?region=nac
footprint SON50P300X300X80-13N-D
pins: 1 DGATE, 2 A, 3 VSNS, 4 SW, 5 OV, 6 EN/UVLO, 7 GND, 8 HGATE, 9 OUT, 10 VS, 11 CAP, 12 C, 13 EP

## LTC4412ES6#TRMPBF
designator IC?
Integrated Circuit; Manufacturer_Name: Analog Devices; Manufacturer_Part_Number: LTC4412ES6#TRMPBF; Datasheet Link: http://cds.linear.com/docs/en/datasheet/4412fb.pdf; Height: 1mm; Mouser Part Number: 584-LTC4412ES6TRMPBF; Mouser Price/Stock: https://www.mouser.co.uk/ProductDetail/Analog-Devices/LTC4412ES6TRMPBF?qs=hVkxg5c3xu8vBeVp9%252BXk%252Bg%3D%3D; Arrow Part Number: LTC4412ES6#TRMPBF; Arrow Price/Stock: https://www.arrow.com/en/products/ltc4412es6trmpbf/analog-devices.html?utm_currency=USD&region=europe
footprint SOT95P280X100-6N
pins: 1 VIN, 2 GND, 3 CTL, 4 STAT, 5 GATE, 6 SENSE

## M.2 M Key connector RPI
designator J4
M.2 NGFF M-KEY H4.2mm Conn Card Edge SKT 67 POS 0.5mm Solder RA SMD T/R; Gender: Female; Number of Positions: 67; Contact Current Rating: 500mA; SM P/N: 13806721; PCB Mounting Orientation: Right Angle; Termination: Solder; Insulation Material: Thermoplastic; Number of Rows: 2; Housing Color: Black; Min Operating Temperature: -40°C; ELV: Compliant; Height: 0.165inch; Orientation: Right Angle; Pitch: 0.5mm; Contact Plating: Gold,Matte; Mount: Surface Mount; Length: 0.862inch; Width: 8.7mm; RoHS Compliant: Yes; Housing Material: Thermoplastic; Packaging: Tape and Reel; Color: Black; Contact Material: Copper Alloy; Max Operating Temperature: 80°C
footprint M.2 M Key connector RPI
pins: 1 GND, 2 3.3V, 3 GND, 4 3.3V, 5 PETn3, 6 NC, 7 PETp3, 8 NC, 9 GND, 10 DAS/~{{DSS}/}{LED1}, 11 PERn3, 12 3.3V, 13 PERp3, 14 3.3V, 15 GND, 16 3.3V, 17 PETn2, 18 3.3V, 19 PETp2, 20 NC, 21 GND, 22 NC, 23 PERn2, 24 NC, 25 PERp2, 26 NC, 27 GND, 28 NC, 29 PETn1, 30 NC, 31 PETp1, 32 NC, 33 GND, 34 NC, 35 PERn1, 36 NC, 37 PERp1, 38 DEVSLP, 39 GND, 40 NC, 41 PETn0, 42 NC, 43 PETp0, 44 NC, 45 GND, 46 NC, 47 PERn0, 48 NC, 49 PERp0, 50 ~{{PERST}}, 51 GND, 52 ~{{CLKREQ}}, 53 REFCLKn, 54 ~{{PEWAKE}}, 55 REFCLKp, 56 NC, 57 GND, 58 NC, 67 NC, 68 SUSCLK, 69 PEDET, 70 3.3V, 71 GND, 72 3.3V, 73 GND, 74 3.3V, 75 GND, M1 GND2230, M2 GND2242, M3 GND2260, M4 GND2280, S1, S2

## MMICT3902-00-012
designator IC?
Integrated Circuit; Manufacturer_Name: TDK; Manufacturer_Part_Number: MMICT3902-00-012; Description: Mic Omni-Directional -26dB Rectangle Solder Pad; Datasheet Link: http://invensense.tdk.com/wp-content/uploads/2020/05/DS-000357-T3902-v1.0.pdf; Height: 1.13mm; Mouser Part Number: 410-MMICT3902-00-012; Mouser Price/Stock: https://www.mouser.co.uk/ProductDetail/TDK-InvenSense/MMICT3902-00-012?qs=yqaQSyyJnNi1lpqXyrpxOA%3D%3D; Arrow Part Number: MMICT3902-00-012; Arrow Price/Stock: https://www.arrow.com/en/products/mmict3902-00-012/invensense?utm_currency=USD&region=nac
footprint MMICT390200012
pins: 1 DATA, 2 SELECT, 3 GND, 4 CLK, 5 VDD

## Mux superspeed
designator U1, comment HD3SS3220RNHR
Manufacturer: TI(德州仪器); Contributor: LCSC; Supplier: LCSC; Supplier Part: C165155; Manufacturer Part: HD3SS3220RNHR; JLCPCB Part Class: Extended Part; spicePre: U; spiceSymbolName: HD3SS3220RNHR
footprint WQFN-30_L4.5-W2.5-P0.4-BL-EP
pins: 1 CC2, 2 CC1, 3 CURRENT_MODE, 4 PORT, 5 VBUS_DET, 6 TXp, 7 TXn, 8 VCC33, 9 RXp, 10 RXn, 11 DIR, 12 ENn_MUX, 13 GND, 14 RX1n, 15 RX1p, 16 TX1n, 17 TX1p, 18 RX2n, 19 RX2p, 20 TX2n, 21 TX2p, 22 ADDR, 23 INT_N/OUT3, 24 VCONN_FAULT_N, 25 SDA/OUT1, 26 SCL/OUT2, 27 ID, 28 GND, 29 ENn_CC, 30 VDD5, 31 EP

## RH-5001
designator CN1
Manufacturer: 荣和; Contributor: lcsc; Supplier: LCSC; Supplier Part: C5199801; Manufacturer Part: RH-5001; JLCPCB Part Class: Extended Part; spicePre: C; spiceSymbolName: RH-5001
footprint TEST-TH_BD2.54-P1.4_BLACK
pins: 1

## RT9742GGJ5
designator IC?
Integrated Circuit; Manufacturer_Name: RICHTEK; Manufacturer_Part_Number: RT9742GGJ5; Datasheet Link: https://componentsearchengine.com/Datasheets/2/RT9742GGJ5.pdf; Height: 1mm; Mouser Part Number: 835-RT9742GGJ5; Mouser Price/Stock: https://www.mouser.co.uk/ProductDetail/Richtek/RT9742GGJ5?qs=amGC7iS6iy%2FZU2tAnLZxIA%3D%3D
footprint SOT94P280X100-5N
pins: 1 VOUT, 2 GND, 3 ~{FLG}, 4 EN/~{EN}, 5 VIN

## RTC battery
designator BT1, comment 3034TR RPI
Coin Cell Battery Holders COIN CELL RETAINER T APE/REEL 500PC; Number of Batteries: 1; Number of Contacts: 2; Termination: SMD/SMT; Contact Material: Nickel; Series: -; Height: 4.31mm; Case/Package: SMD/SMT; Material: Bronze; Mounting Technology: Surface Mount,PCB; Package Quantity: 500; Packaging: Tape and Reel; Lead Free: Lead Free; Contact Plating: Tin; Number of Cells: 1
footprint 3034TR RPI
pins: 1 +, 2 -

## SD Card
designator CARD?, comment 5033981892  (value not drawn)
C428492; Manufacturer: MOLEX; Symbol: 503398-1892; Add into BOM: yes; Card Connection Mode: Push-Push; Card Type: MicroSD Card (TF Card); Connector Type: Connector and Ejector; Device: 5033981892; LCSC Part Name: 自弹式 MicroSD卡(TF卡) 卡座; Supplier Part: C428492; Manufacturer Part: 5033981892; Supplier Footprint: SMD; JLCPCB Part Class: Extended Part; Datasheet: https://www.molex.com/content/dam/molex/molex-dot-com/products/automated/en-us/salesdrawingpdf/503/503398/5033981892_sd.pdf?inline\; Supplier: LCSC; Convert to PCB: yes; Additional Card Detection Pins: -; Supplementary Features: -; Height Above Board: 1.28mm; Operating Temperature: -25℃~+85℃
footprint TF-SMD_503398-1892
3D model TF-SMD_503398-1892
pins: 1 DAT2, 2 CD/DAT3, 3 CMD, 4 VDD, 5 CLK, 6 VSS, 7 DAT0, 8 DAT1, 9, 10, 11 EH

## SS-12M12G5
designator U1
Manufacturer: XKB Connection(中国星坤); Contributor: lcsc; Supplier: LCSC; Supplier Part: C2884789; Manufacturer Part: SS-12M12G5; JLCPCB Part Class: Extended Part; spicePre: U; spiceSymbolName: SS-12M12G5
footprint SW-TH_SS-12M12G5
pins: 1, 2, 3

## ST25R3916B-AQWT
designator IC?
Integrated Circuit; Manufacturer_Name: STMicroelectronics; Manufacturer_Part_Number: ST25R3916B-AQWT; Datasheet Link: https://www.st.com/resource/en/datasheet/st25r3916b.pdf; Height: 1mm; Mouser Part Number: 511-ST25R3916B-AQWT; Mouser Price/Stock: https://www.mouser.co.uk/ProductDetail/STMicroelectronics/ST25R3916B-AQWT?qs=Znm5pLBrcAK6gbJpvnT4Gw%3D%3D; Arrow Part Number: ST25R3916B-AQWT; Arrow Price/Stock: https://www.arrow.com/en/products/st25r3916b-aqwt/stmicroelectronics.html?utm_currency=USD&region=nac
footprint QFN50P500X500X100-33N-D
pins: 1 VDD_IO, 2 TAD2, 3 VDD_D, 4 XTO, 5 XTI, 6 GND_D, 7 VDD_A, 8 VDD, 9 VDD_RF, 10 VDD_TX, 11 VDD_AM, 12 GND_DR_1, 13 RFO1, 14 VDD_DR, 15 RFO2, 16 GND_DR_2, 17 EXT_LM, 18 AAT_A, 19 AAT_B, 20 I2C_EN, 21 VSS, 22 RFI1, 23 RFI2, 24 AGDC, 25 TAD1, 26 GND_A, 27 IRQ, 28 MCU_CLK, 29 BSS, 30 SCLK/SCL, 31 MOSI, 32 MISO/SDA, 33 EP

## STUSB4500QTR
designator IC?
Integrated Circuit; Manufacturer_Name: STMicroelectronics; Manufacturer_Part_Number: STUSB4500QTR; Datasheet Link: https://www.st.com/resource/en/datasheet/stusb4500.pdf; Height: 1mm; Mouser Part Number: 511-STUSB4500QTR; Mouser Price/Stock: https://www.mouser.co.uk/ProductDetail/STMicroelectronics/STUSB4500QTR?qs=wUXugUrL1qyQbYMSzG1ujg%3D%3D; Arrow Part Number: STUSB4500QTR; Arrow Price/Stock: https://www.arrow.com/en/products/stusb4500qtr/stmicroelectronics?utm_currency=USD&region=europe
footprint QFN50P400X400X100-25N-D
pins: 1 CC1DB, 2 CC1, 3 NC, 4 CC2, 5 CC2DB, 6 RESET, 7 SCL, 8 SDA, 9 DISCH, 10 GND, 11 ATTACH, 12 ADDR0, 13 ADDR1, 14 POWER_OK3, 15 GPIO, 16 VBUS_EN_SNK, 17 A_B_SIDE, 18 VBUS_VS_DISCH, 19 ALERT, 20 POWER_OK2, 21 VREG_1V2, 22 VSYS, 23 VREG_2V7, 24 VDD, 25 EP

## TPS25750DRJKR
designator IC?
Integrated Circuit; Manufacturer_Name: Texas Instruments; Manufacturer_Part_Number: TPS25750DRJKR; Datasheet Link: https://www.ti.com/lit/ds/symlink/tps25750.pdf?ts=1610417214819&ref_url=https%253A%252F%252Fwww.ti.com%252Finterface%252Fusb%252Ftype-c-and-power-delivery%252Fproducts.html; Height: 0.8mm; Mouser Part Number: 595-TPS25750DRJKR; Mouser Price/Stock: https://www.mouser.co.uk/ProductDetail/Texas-Instruments/TPS25750DRJKR?qs=81r%252BiQLm7BQCKYuqi7XEAQ%3D%3D; Arrow Part Number: TPS25750DRJKR; Arrow Price/Stock: https://www.arrow.com/en/products/tps25750drjkr/texas-instruments?utm_currency=USD&region=nac
footprint TPS25750DRJKR
pins: 1 LDO_3V3, 2 ADCIN1, 3 ADCIN2, 4 LDO_1V5, 5 GPIO0, 6 GPIO1, 7 GPIO2, 8 I2CS_SDA, 9 I2CS_SCL, 10 I2CS_IRQ, 11 GND_1, 12 GND_2, 13 GPIO11, 14 GND_3, 15 DRAIN_1, 16 I2CM_SDA, 17 I2CM_SCL, 18 I2CM_IRQ, 19 GPIO3, 20 PPHV_1, 21 PPHV_2, 22 PPHV_3, 23 VBUS_IN_1, 24 VBUS_IN_2, 25 VBUS_IN_3, 26 GPIO4/USB_P, 27 GPIO5/USB_N, 28 CC1, 29 CC2, 30 DRAIN_2, 31 GND_4, 32 VBUS_1, 33 VBUS_2, 34 PP5V_1, 35 PP5V_2, 36 GPIO7, 37 GPIO6, 38 VIN_3V3, 39 GND_5, 40 DRAIN_3, 41 PPHV_4, 42 VBUS_IN_4, 43 VBUS_3, 44 PP5V_3

## TPS53318DQPR
designator IC?
Integrated Circuit; Manufacturer_Name: Texas Instruments; Manufacturer_Part_Number: TPS53318DQPR; Datasheet Link: http://www.ti.com/lit/gpn/TPS53318; Height: 1.5mm; Mouser Part Number: 595-TPS53318DQPR; Mouser Price/Stock: https://www.mouser.co.uk/ProductDetail/Texas-Instruments/TPS53318DQPR?qs=4whTb%2F0XQMghW0Cmq9uGjw%3D%3D; Arrow Part Number: TPS53318DQPR; Arrow Price/Stock: https://www.arrow.com/en/products/tps53318dqpr/texas-instruments.html?utm_currency=USD&region=nac
footprint SON50P500X600X150-23N
pins: 1 VFB, 2 EN, 3 PGOOD, 4 VBST, 5 ROVP, 6 LL_1, 7 LL_2, 8 LL_3, 9 LL_4, 10 LL_5, 11 LL_6, 12 VIN_1, 13 VIN_2, 14 VIN_3, 15 VIN_4, 16 VIN_5, 17 VIN_6, 18 VREG, 19 VDD, 20 MODE, 21 TRIP, 22 RF, 23 EP/GND

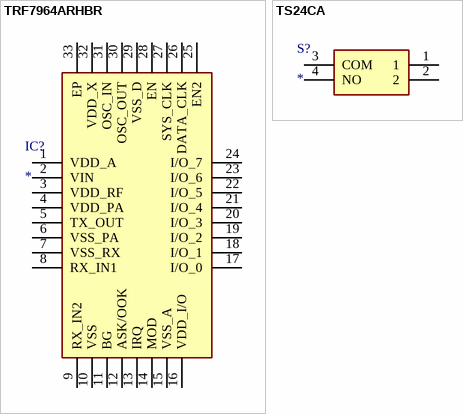
[diagram p3: symbols TRF7964ARHBR to TS24CA]

## TRF7964ARHBR
designator IC?
Integrated Circuit; Manufacturer_Name: Texas Instruments; Manufacturer_Part_Number: TRF7964ARHBR; Datasheet Link: http://www.ti.com/lit/gpn/trf7964a; Height: 1mm; Mouser Part Number: 595-TRF7964ARHBR; Mouser Price/Stock: https://www.mouser.co.uk/ProductDetail/Texas-Instruments/TRF7964ARHBR?qs=4whTb%2F0XQMjbuhjN8zVfxA%3D%3D; Arrow Part Number: TRF7964ARHBR; Arrow Price/Stock: https://www.arrow.com/en/products/trf7964arhbr/texas-instruments
footprint QFN50P500X500X100-33N-D
pins: 1 VDD_A, 2 VIN, 3 VDD_RF, 4 VDD_PA, 5 TX_OUT, 6 VSS_PA, 7 VSS_RX, 8 RX_IN1, 9 RX_IN2, 10 VSS, 11 BG, 12 ASK/OOK, 13 IRQ, 14 MOD, 15 VSS_A, 16 VDD_I/O, 17 I/O_0, 18 I/O_1, 19 I/O_2, 20 I/O_3, 21 I/O_4, 22 I/O_5, 23 I/O_6, 24 I/O_7, 25 EN2, 26 DATA_CLK, 27 SYS_CLK, 28 EN, 29 VSS_D, 30 OSC_OUT, 31 OSC_IN, 32 VDD_X, 33 EP

## TS24CA
designator S?
Switch; Manufacturer_Name: Shou Han; Manufacturer_Part_Number: TS24CA; Datasheet Link: https://datasheet.lcsc.com/lcsc/1912111437_SHOU-HAN-TS24CA_C393942.pdf; Height: 1.8mm
footprint TS24CA
pins: 1, 2, 3 COM, 4 NO